# EAGLE library part SBRIO_W503 (library formula electric)
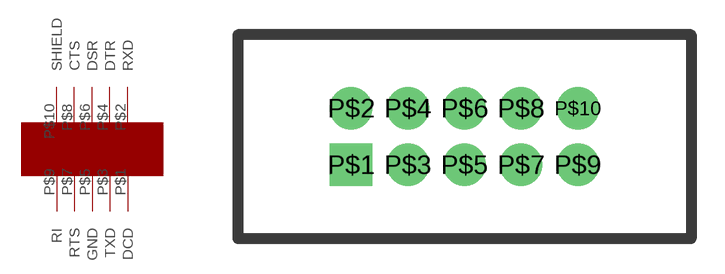
[diagram p3: symbol with the pads of SBRIO_W; footprint SBRIO_W]

Designator prefix -

## SBRIO_W503  [SBRIO_W]
P$1  DCD
P$2  RXD
P$3  TXD
P$4  DTR
P$5  GND  sup
P$6  DSR
P$7  RTS
P$8  CTS
P$9  RI
P$10  SHIELD

## Footprint SBRIO_W (pad centres in mm)
SBRIO 10pin .1inch Digikey?: SSW-105-01-G-D-LL-ND
drill 1.27 pad 1.778 square: P$1 -5.08,-1.27
drill 1.27 pad 1.778: P$2 -5.08,1.27; P$3 -2.54,-1.27; P$4 -2.54,1.27; P$5 0,-1.27; P$6 0,1.27; P$7 2.54,-1.27; P$8 2.54,1.27; P$9 5.08,-1.27; P$10 5.08,1.27